# EAGLE library part LMH6321-DIL8 (library yb-library)
LMH6321 on SOIC-8 to DIP-8 Adapter
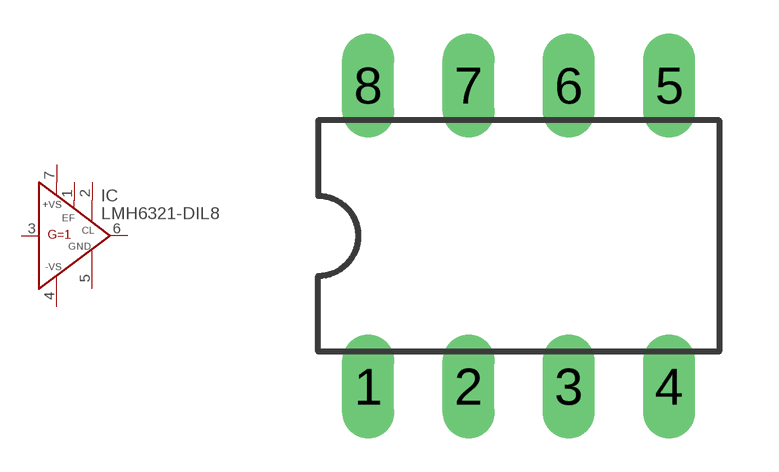
[diagram p8: symbol with the pads of DIL08-ADAP; footprint DIL08-ADAP]

Designator prefix IC

## LMH6321-DIL8  [DIL08-ADAP]
1  EF  pas
2  CL  pas
3  IN  in
4  -VS  pwr
5  GND  pas
6  OUT  out
7  +VS  pwr

## Footprint DIL08-ADAP (pad centres in mm)
SOP-8/SOIC-8 to DIP-8 Adapter
drill 0.813 long: 1 -3.81,-3.81; 2 -1.27,-3.81; 3 1.27,-3.81; 4 3.81,-3.81; 5 3.81,3.81; 6 1.27,3.81; 7 -1.27,3.81; 8 -3.81,3.81